# EAGLE library part 4_RES_ARRAY (library r0603array)
SMD0603 4-resistor array with slightly longer pads (for hand soldering)
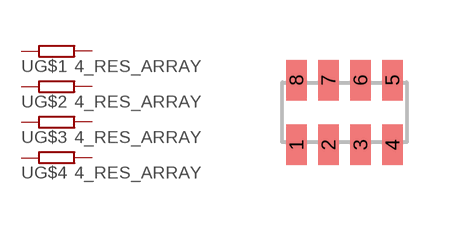
[diagram p0: symbol with the pads of 0603_ARRAY_4; footprint 0603_ARRAY_4]

Designator prefix -; gates G$1=RESISTOR G$2=RESISTOR G$3=RESISTOR G$4=RESISTOR

## 4_RES_ARRAY  [0603_ARRAY_4]
1  G$1:P$1  pas
2  G$2:P$1  pas
3  G$3:P$1  pas
4  G$4:P$1  pas
5  G$4:P$2  pas
6  G$3:P$2  pas
7  G$2:P$2  pas
8  G$1:P$2  pas

## Footprint 0603_ARRAY_4 (pad centres in mm)
smd 0.508 x 1.016: 1 -1.2,-0.81; 2 -0.4,-0.81; 3 0.4,-0.81; 4 1.2,-0.81; 5 1.2,0.81; 6 0.4,0.81; 7 -0.4,0.81; 8 -1.2,0.81